# Altium footprint library JDB-001.PcbLib: 44 footprints (part 3 of 3)
Each footprint in its own frame and in the unit in brackets; x right, y up, seen from the top. Pads: shape width x height; smd on the part's side, far side on the other; paste and mask are expansions set on the pad; w line width, h text height; cw(c..) or ccw(c..) is an arc to the next point about the centre after c.
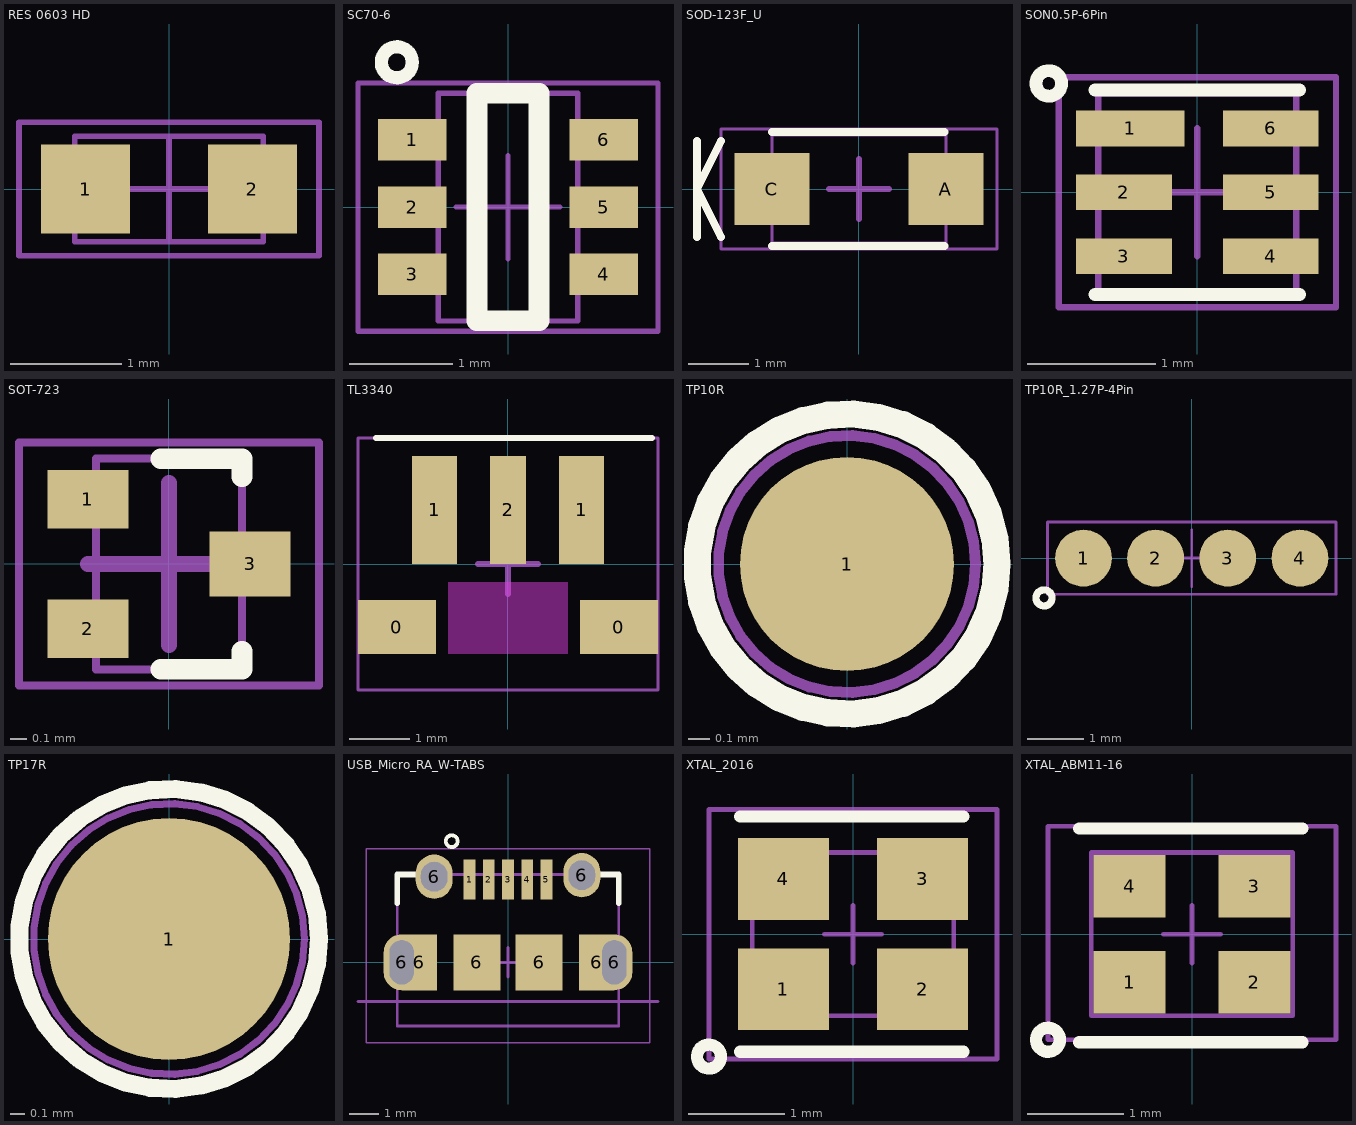
[diagram p2: the footprints below, top view; thin cyan lines are the x and y axes]

## RES 0603 HD [mm] "Chip Resistor, 2-Leads, Body 1.60x0.82mm, IPC High Density"
height 0.6
pads (2):
  rect 0.8x0.8 smd: 1(-0.75,0) 2(0.75,0)
Mechanical 11:
  text ".Designator" at 1.118,0.356 h0.7
Mechanical 13:
  lines w0.05: -0.85,-0.475 0.85,-0.475 0.85,0.475 -0.85,0.475 -0.85,-0.475
Mechanical 15:
  lines w0.05: -0.475,0 0.475,0 ; 0,-0.475 0,0.475 ; -1.35,-0.6 1.35,-0.6 1.35,0.6 -1.35,0.6 -1.35,-0.6
3D body: height 0.55, standoff 0, extent 0.57,-0.475 0.85,0.475
3D body: height 0.55, standoff 0, extent -0.85,-0.475 -0.57,0.475
3D body: height 0.55, standoff 0, extent -0.57,-0.475 0.57,0.475

## SC70-6 [mm] "SC70-6, 6-Pin, Body 2.00x2.10mm, Pitch 0.65mm, IPC High Density"
height 1.1
pads (6):
  rect 0.66x0.4 smd: 1(-0.925,0.65) 2(-0.925,0) 3(-0.925,-0.65) 4(0.925,-0.65) 5(0.925,0) 6(0.925,0.65)
Top Overlay:
  circle w0.127: c-1.075,1.4 r0.15
  lines w0.2: -0.3,-1.1 0.3,-1.1 0.3,1.1 -0.3,1.1 -0.3,-1.1
Mechanical 11:
  text ".Designator" at -0.325,1.2 h0.8
Mechanical 13:
  lines w0.05: -0.675,-1.1 -0.675,1.1 0.675,1.1 0.675,-1.1 -0.675,-1.1
Mechanical 15:
  lines w0.05: -0.5,0 0.5,0 ; 0,-0.5 0,0.5 ; -1.45,-1.2 -1.45,1.2 1.45,1.2 1.45,-1.2 -1.45,-1.2
3D body: height 1.1, standoff 0.1, extent -0.675,-1.1 0.675,1.1

## SOD-123F_U [mm] "SOD-123F, Unidirectional, 2-Leads, Body 1.65x3.60mm, IPC High Density"
height 0.98
pads (2):
  rect 1.25x1.2 smd: A(1.45,0) C(-1.45,0)
Top Overlay:
  lines w0.127: -2.7,-0.8 -2.7,0.8 ; -2.3,-0.8 -2.7,0 -2.3,0.8 ; -1.45,-0.95 1.425,-0.95 ; -1.45,0.95 1.425,0.95
Mechanical 11:
  text ".Designator" at -1.5,-0.475 h1
Mechanical 13:
  lines w0.05: -1.45,-0.9 1.45,-0.9 1.45,0.9 -1.45,0.9 -1.45,-0.9
Mechanical 15:
  lines w0.05: -2.3,-1 2.3,-1 2.3,1 -2.3,1 -2.3,-1
  lines w0.1: -0.5,0 0.5,0 ; 0,-0.5 0,0.5
3D body: height 0.98, standoff 0, extent -1.45,-0.9 -0.9,0.9
3D body: height 0.98, standoff 0, extent -0.9,-0.9 1.45,0.9

## SON0.5P-6Pin [mm] "Small Outline No-Lead Package, 0.5pitch, 6 pin, no thermal pad, 1.5mm x 1.5mm"
height 0.8
pads (6):
  rect 0.85x0.28 smd mask+0.05: 1(-0.525,0.5)
  rect 0.75x0.28 smd mask+0.05: 2(-0.575,0) 3(-0.575,-0.5) 4(0.575,-0.5) 5(0.575,0) 6(0.575,0.5)
Top Overlay:
  circle w0.1: c-1.162,0.852 r0.1
  lines w0.1: -0.8,-0.8 0.8,-0.8 ; -0.8,0.8 0.8,0.8
Mechanical 11:
  text ".Designator" at -0.914,-0.254 h0.5
Mechanical 13:
  lines w0.05: -0.775,-0.775 -0.775,0.775 0.775,0.775 0.775,-0.775 -0.775,-0.775
Mechanical 15:
  lines w0.05: -0.5,0 0.5,0 ; 0,-0.5 0,0.5 ; -1.085,-0.9 -1.085,0.9 1.085,0.9 1.085,-0.9 -1.085,-0.9
3D body: height 0.8, standoff 0, extent -0.775,-0.775 0.775,0.775

## SOT-723 [mm] "SOT-723, 3-Leads, 1.20mm x 1.20mm, Pitch 0.40mm, IPC High Density"
height 0.55
pads (3):
  rect 0.5x0.36 smd: 1(-0.5,0.4) 2(-0.5,-0.4)
  rect 0.5x0.4 smd: 3(0.5,0)
Top Overlay:
  lines w0.127: -0.05,-0.65 0.45,-0.65 0.45,-0.539 ; -0.05,0.65 0.45,0.65 0.45,0.539
Mechanical 11:
  text ".Designator" at 0.229,-0.584 h0.5
Mechanical 13:
  lines w0.05: -0.45,-0.65 -0.45,0.65 0.45,0.65 0.45,-0.65 -0.45,-0.65
Mechanical 15:
  lines w0.05: -0.925,-0.75 -0.925,0.75 0.925,0.75 0.925,-0.75 -0.925,-0.75
  lines w0.1: -0.5,0 0.5,0 ; 0,-0.5 0,0.5
3D body: height 0.55, standoff 0, extent -0.45,-0.65 0.45,0.65

## TL3340 [mm]
pads (5):
  rect 1.3x0.9 smd: 0(-1.85,-1.05) 0(1.85,-1.05)
  rect 0.75x1.8 smd: 1(-1.225,0.9) 1(1.225,0.9)
  rect 0.6x1.8 smd: 2(0,0.9)
Top Overlay:
  lines w0.1: -2.2,2.1 2.4,2.1
Keep-Out Layer:
  rectangle: -1,-1.5 1,-0.3
Mechanical 11:
  lines w0.05: -2.5,-2.1 2.5,-2.1 2.5,2.1 -2.5,2.1 -2.5,-2.1
  text ".Designator" at -0.971,-0.284 h0.5
Mechanical 15:
  lines w0.1: -0.5,0 0.5,0 ; 0,-0.5 0,0.5
3D body "TL3340AF160QG.stp": height 3.25, standoff -0.5, extent -2.25,-2.1 2.25,1.565

## TP10R [mm] "Testpoint, Round 1.0mm Dia"
pads (1):
  round 1 smd paste-0.5: 1(0,0)
Top Overlay:
  circle w0.127: c0,0 r0.7
Mechanical 11:
  text ".Designator" at -0.178,1.346 h0.5
Mechanical 13:
  circle w0.05: c0,0 r0.6
3D body: height 0.05, standoff 0, extent -0.496,-0.499 0.5,0.499

## TP10R_1.27P-4Pin [mm] "Test Points, 1.0mm Diameter, 1.27mm(0.050\") pitch, 4 Pins"
pads (4):
  round 1 smd paste-2 mask+0.08: 1(-1.905,0) 2(-0.635,0) 3(0.635,0) 4(1.905,0)
Top Overlay:
  circle w0.127: c-2.6,-0.7 r0.141
Mechanical 11:
  text ".Designator" at 1.821,0.481 h1
Mechanical 15:
  lines w0.05: -0.5,0 0.5,0 ; 0,-0.5 0,0.5 ; -2.54,-0.635 2.54,-0.635 2.54,0.635 -2.54,0.635 -2.54,-0.635
3D body: height 0.1, standoff 0, extent -1.131,-0.499 -0.135,0.499
3D body: height 0.1, standoff 0, extent 0.139,-0.499 1.135,0.499
3D body: height 0.1, standoff 0, extent 1.409,-0.499 2.405,0.499
3D body: height 0.1, standoff 0, extent -2.401,-0.499 -1.405,0.499

## TP17R [mm] "Testpoint, Round 1.7mm Dia"
pads (1):
  round 1.7 smd paste-1: 1(0,0)
Top Overlay:
  circle w0.127: c0,0 r1.053
Mechanical 11:
  text ".Designator" at -0.229,1.88 h0.5
Mechanical 13:
  circle w0.05: c0,0 r0.95
3D body: height 0.05, standoff 0, extent -0.843,-0.848 0.85,0.849

## USB_Micro_RA_W-TABS [mm] "USB Micro-AB Connector, 5-Leads, Pitch 0.65mm, 8mm x 5mm"
height 2.8
pads (13):
  rect 0.4x1.35 smd: 1(-1.3,2.8) 2(-0.65,2.8) 3(0,2.8) 4(0.65,2.8) 5(1.3,2.8)
  oval 1.225x1.9 hole 0.825 slot 1.5 at 90 deg: 6(-3.6,0) 6(3.6,0.001)
  rect 1.2x1.9 smd: 6(-3,0) 6(3,0)
  oval 1.25x1.5 hole 0.9 slot 1 at 90 deg: 6(-2.5,2.9) 6(2.5,2.95)
  rect 1.6x1.9 smd: 6(-1.05,0) 6(1.05,0)
Top Overlay:
  circle w0.127: c-1.905,4.103 r0.2
  lines w0.2: -3.75,2 -3.75,2.975 -3.149,2.976 ; 3.149,2.975 3.75,2.975 3.75,2
Mechanical 11:
  text ".Designator" at 2.286,0.737 h1.5
Mechanical 13:
  lines w0.1: -3.75,-2.15 -3.75,2.976 3.75,2.976 3.75,-2.15 -3.75,-2.15
Mechanical 15:
  lines w0.05: -4.8,3.851 4.8,3.851 4.8,-2.723 -4.8,-2.723 -4.8,3.851
  lines w0.1: -5.08,-1.325 5.08,-1.325 ; -0.5,0 0.5,0 ; 0,-0.5 0,0.5
3D body: height 2.83, standoff 2.25, extent -3.05,-2.623 3.05,-2.023
3D body: height 0.25, standoff -0.32, extent -3.05,-2.623 3.05,-2.023
3D body: height 1.79, standoff 0.71, extent 3.5,-2.625 4,-2.023
3D body: height 1.79, standoff 0.71, extent -4,-2.625 -3.5,-2.023
3D body: height 0.25, standoff 0, extent -3.25,1.775 3.25,2.105
3D body: height 2.5, standoff -0.01, extent -3.754,1.776 3.757,2.976
3D body: height 0.55, standoff -0.6, extent 3.03,-0.425 3.8,0.425
3D body: height 0.55, standoff -0.6, extent -3.8,-0.425 -3.03,0.425
3D body: height 2.51, standoff -0.01, extent -3.756,-2.024 3.757,1.776
3D body: height 0.25, standoff 0, extent -0.15,2.104 0.157,3.247
3D body: height 0.25, standoff 0, extent 0.5,2.104 0.807,3.247
3D body: height 0.25, standoff 0, extent 1.15,2.104 1.457,3.247
3D body: height 0.25, standoff 0, extent -1.45,2.104 -1.143,3.248
3D body: height 0.25, standoff 0, extent -0.8,2.104 -0.493,3.247
3D body: height 2.25, standoff -0.85, extent -2.379,2.826 2.387,3.426
3D body: height 2.5, standoff 2.25, extent -0.967,2.825 0.972,3.425

## XTAL_2016 [mm] "Crystal, 4 lead, 2.0mm x 1.6mm"
height 0.5
pads (4):
  rect 0.95x0.85 smd: 1(-0.725,-0.575) 2(0.725,-0.575) 3(0.725,0.575) 4(-0.725,0.575)
Top Overlay:
  circle w0.127: c-1.5,-1.275 r0.125
  lines w0.127: -1.175,-1.225 1.15,-1.225 ; -1.175,1.225 1.15,1.225
Mechanical 11:
  text ".Designator" at -0.762,-0.254 h0.5
Mechanical 13:
  lines w0.05: -1.05,-0.85 -1.05,0.85 1.05,0.85 1.05,-0.85 -1.05,-0.85
Mechanical 15:
  lines w0.05: -0.3,0 0.3,0 ; 0,-0.3 0,0.3 ; -1.5,-1.3 1.5,-1.3 1.5,1.3 -1.5,1.3 -1.5,-1.3
3D body: height 0.5, standoff 0, extent -1.05,-0.85 1.05,0.85

## XTAL_ABM11-16 [mm] "Crystal, 4 lead, 2.0mm x 1.6mm"
height 0.5
pads (4):
  rect 0.75x0.65 smd: 1(-0.65,-0.5) 2(0.65,-0.5) 3(0.65,0.5) 4(-0.65,0.5)
Top Overlay:
  circle w0.127: c-1.5,-1.1 r0.125
  lines w0.127: -1.175,-1.125 1.15,-1.125 ; -1.175,1.1 1.15,1.1
Mechanical 11:
  text ".Designator" at -0.762,-0.254 h0.5
Mechanical 13:
  lines w0.05: -1.05,-0.85 -1.05,0.85 1.05,0.85 1.05,-0.85 -1.05,-0.85
Mechanical 15:
  lines w0.05: -0.3,0 0.3,0 ; 0,-0.3 0,0.3 ; -1.5,-1.1 1.5,-1.1 1.5,1.125 -1.5,1.125 -1.5,-1.1
3D body "User Library-ABM11.STEP": height 0.58, standoff -0.01, extent -0.975,-0.8 1.025,0.8